# EAGLE library part TPS6102* (library 0_MyTempLIB)
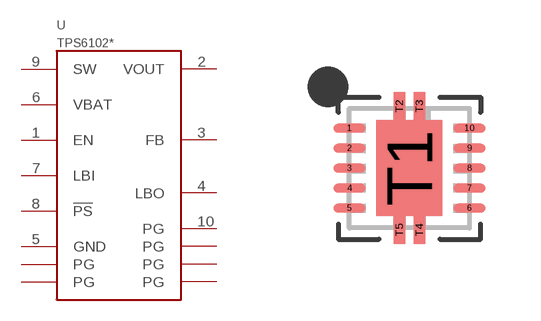
[diagram p15: symbol with the pads of SON10; footprint SON10]

Designator prefix U

## TPS61020DRC, TPS61024DRC, TPS61025DRC, TPS61026DRC, TPS61027DRC, TPS61028DRC, TPS61029DRC  [SON10]
1  EN  in
2  VOUT  pas
3  FB  pas
4  LBO  oc
5  GND  sup
6  VBAT  in
7  LBI  in
8  !PS  in
9  SW  in
10  PG  pas
T1  PG  pas
T2  PG  pas
T3  PG  pas
T4  PG  pas
T5  PG  pas

## Footprint SON10 (pad centres in mm)
smd 0.8 x 0.23: 1 -1.5,1; 2 -1.5,0.5; 3 -1.5,0; 4 -1.5,-0.5; 5 -1.5,-1; 6 1.5,-1; 7 1.5,-0.5; 8 1.5,0; 9 1.5,0.5; 10 1.5,1
smd 1.65 x 2.4: T1 0,0
smd 0.28 x 0.7: T2 -0.25,1.55; T3 0.25,1.55; T4 0.25,-1.55; T5 -0.25,-1.55